# EAGLE library part SPARKFUN_SAMD21G_MINI_BREAKOUT (library IntegratedLib)
Modulo Sparkfun SAMD21G Mini
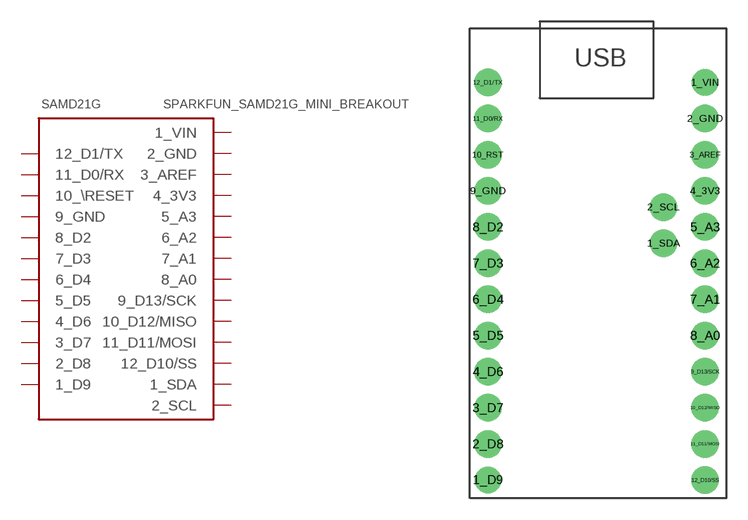
[diagram p25: symbol with the pads of SPARKFUN_SAMD21G_MINI_BREAKOUT; footprint SPARKFUN_SAMD21G_MINI_BREAKOUT]

Designator prefix SAMD21G

## SPARKFUN_SAMD21G_MINI_BREAKOUT (FABRICANTE: SPARKFUN; PARTNUMBER: SAMD21G; TIPO: MODULO)  [SPARKFUN_SAMD21G_MINI_BREAKOUT]
1_D9  1_D9
1_SDA  1_SDA
1_VIN  1_VIN
2_D8  2_D8
2_GND  2_GND
2_SCL  2_SCL
3_AREF  3_AREF
3_D7  3_D7
4_3V3  4_3V3
4_D6  4_D6
5_A3  5_A3
5_D5  5_D5
6_A2  6_A2
6_D4  6_D4
7_A1  7_A1
7_D3  7_D3
8_A0  8_A0
8_D2  8_D2
9_D13/SCK  9_D13/SCK
9_GND  9_GND
10_D12/MISO  10_D12/MISO
10_RST  10_\RESET
11_D0/RX  11_D0/RX
11_D11/MOSI  11_D11/MOSI
12_D1/TX  12_D1/TX
12_D10/SS  12_D10/SS

## Footprint SPARKFUN_SAMD21G_MINI_BREAKOUT (pad centres in mm)
drill 1 pad 1.88: 1_D9 1.27,1.27; 1_VIN 16.51,29.21
drill 1.2 pad 1.93: 1_SDA 13.589,17.907; 2_D8 1.27,3.81; 2_GND 16.51,26.67; 2_SCL 13.589,20.447; 3_AREF 16.51,24.13; 3_D7 1.27,6.35; 4_3V3 16.51,21.59; 4_D6 1.27,8.89; 5_A3 16.51,19.05; 5_D5 1.27,11.43; 6_A2 16.51,16.51; 6_D4 1.27,13.97; 7_A1 16.51,13.97; 7_D3 1.27,16.51; 8_A0 16.51,11.43; 8_D2 1.27,19.05; 9_D13/SCK 16.51,8.89; 9_GND 1.27,21.59; 10_D12/MISO 16.51,6.35; 10_RST 1.27,24.13; 11_D0/RX 1.27,26.67; 11_D11/MOSI 16.51,3.81; 12_D1/TX 1.27,29.21; 12_D10/SS 16.51,1.27